# EAGLE library part M15 (library work)
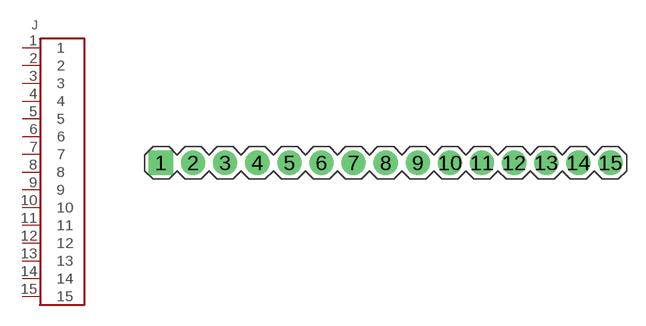
[diagram p16: symbol with the pads of M15; footprint M15]

Designator prefix J

## M15  [M15]
1  1
2  2
3  3
4  4
5  5
6  6
7  7
8  8
9  9
10  10
11  11
12  12
13  13
14  14
15  15

## Footprint M15 (pad centres in mm)
drill 1.016 pad 1.905 square: 1 -17.78,0
drill 1.016 pad 1.905: 2 -15.24,0; 3 -12.7,0; 4 -10.16,0; 5 -7.62,0; 6 -5.08,0; 7 -2.54,0; 8 0,0; 9 2.54,0; 10 5.08,0; 11 7.62,0; 12 10.16,0; 13 12.7,0; 14 15.24,0; 15 17.78,0